# Altium integrated library TI_DigitalToAnalogConverters.IntLib: 1 symbol
Pins are listed as number, name and electrical type; pins without a type are passive.

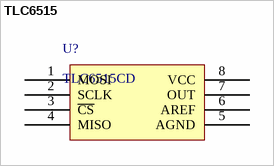
[diagram p0: symbol TLC6515]

## TLC6515
designator U?, comment TLC6515CD
10-bit analog to digiyal converter; Manufacturer: Texas Instruments
footprint SOIC8 (SOIC, 8-Leads, Body 4,90x3,90mm, Pitch 1,27mm, IPC Medium Density)
pins: 1 MOSI, 2 SCLK, 3 ~{CS}, 4 MISO, 5 AGND, 6 AREF, 7 OUT, 8 VCC